# Altium integrated library AD Power Mgt Supervisory Circuit.IntLib: 143 symbols (part 1 of 3)
Pins are listed as number, name and electrical type; pins without a type are passive.

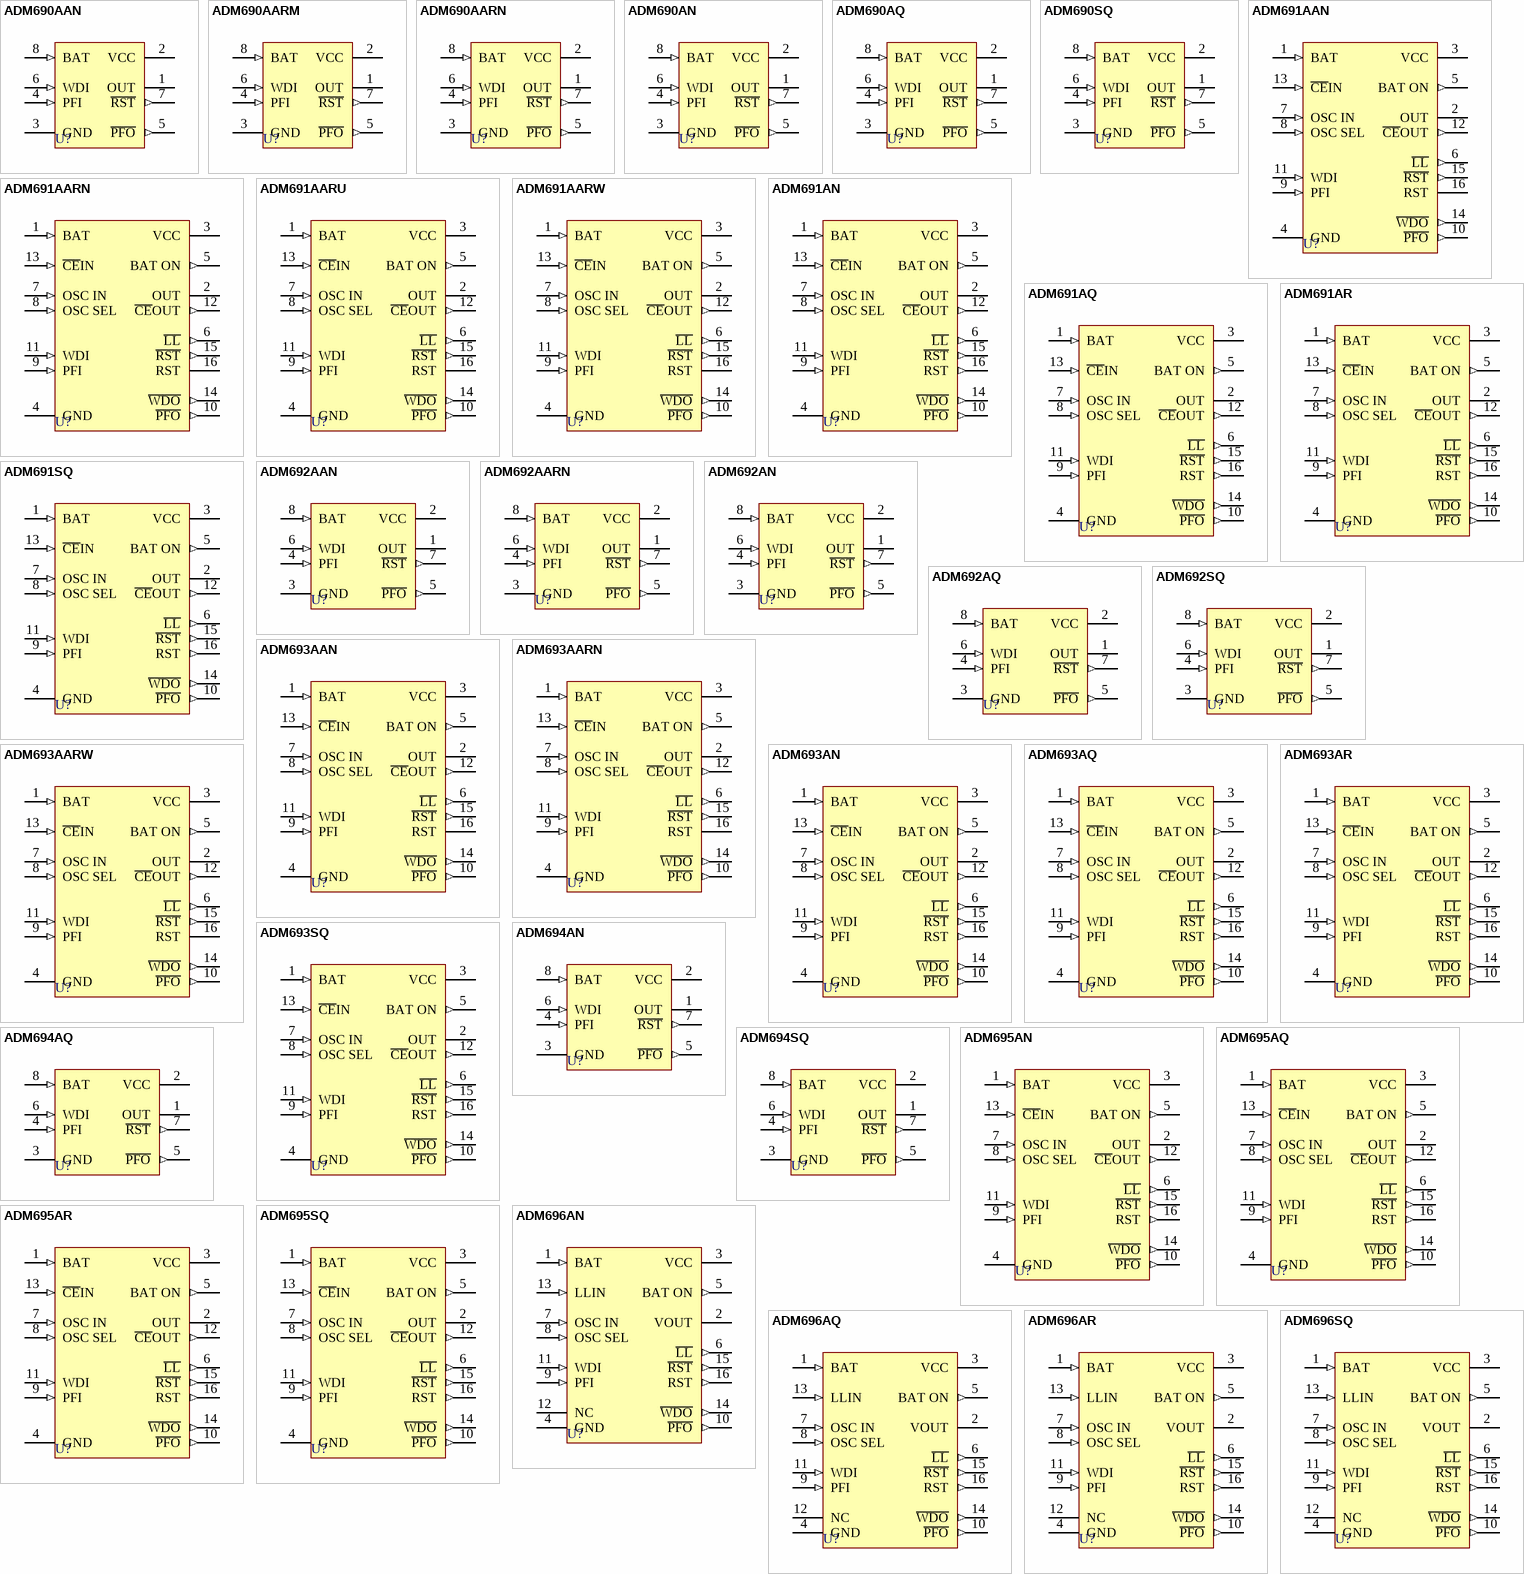
[diagram p0: symbols ADM690AAN to ADM696SQ]

## ADM690AAN
designator U?
Microprocessor Supervisory Circuit; Published: 8-Jun-2000; LatestRevisionDate: 04-Mar-2005; LatestRevisionNote: Stylized 3D Model Added.; DatasheetVersion: REV.0 1996; PackageReference: N-8_A; Publisher: Altium Limited; PackageDescription: DIP; 8 Leads; Row Spacing 7.62 mm; Pitch 2.54 mm; Code_JEDEC: MO-001-AN; ComponentLink1Description: Manufacturer Link; ComponentLink1URL: http://www.analog.com/en/prod/0%2C2877%2CADM690A%2C00.html; ComponentLink2Description: Datasheet; ComponentLink2URL: http://www.analog.com/UploadedFiles/Data_Sheets/551381363ADM690A_2A_802_5_0.pdf
footprint N-8_A (DIP; 8 Leads; Row Spacing 7.62 mm; Pitch 2.54 mm)
3D model N-8A (DIP; 8 Leads; Row Spacing 7.62 mm; Pitch 2.54 mm)
pins: 1 OUT (power), 2 VCC (power), 3 GND (power), 4 PFI (in), 5 ~{PFO} (out), 6 WDI (in), 7 ~{RST} (out), 8 BAT (in)

## ADM690AARM
designator U?
Microprocessor Supervisory Circuit; Published: 8-Jun-2000; LatestRevisionDate: 04-Mar-2005; LatestRevisionNote: Stylized 3D Model Added, PCB footprint pad width decreased.; DatasheetVersion: REV.0 1996; PackageVersion: 2004; PackageReference: RM-8; Publisher: Altium Limited; PackageDescription: Shrink Small Outline, MSOP; 8 Leads; Body Width 3 mm; Pitch 0.65 mm; Code_JEDEC: MO-187-AA; ComponentLink1Description: Manufacturer Link; ComponentLink1URL: http://www.analog.com/en/prod/0%2C2877%2CADM690A%2C00.html; ComponentLink2Description: Datasheet; ComponentLink2URL: http://www.analog.com/UploadedFiles/Data_Sheets/551381363ADM690A_2A_802_5_0.pdf
footprint RM-8 (Shrink Small Outline, MSOP; 8 Leads; Body Width 3 mm; Pitch 0.65 mm)
3D model RM-08 (Shrink Small Outline, MSOP; 8 Leads; Body Width 3 mm; Pitch 0.65 mm)
pins: 1 OUT (power), 2 VCC (power), 3 GND (power), 4 PFI (in), 5 ~{PFO} (out), 6 WDI (in), 7 ~{RST} (out), 8 BAT (in)

## ADM690AARN
designator U?
Microprocessor Supervisory Circuit; Published: 8-Jun-2000; LatestRevisionDate: 13-Apr-2006; LatestRevisionNote: IPC-7351 Footprint Added.; DatasheetVersion: REV.0 1996; PackageVersion: revA; PackageReference: SO-8; Publisher: Altium Limited; PackageDescription: 8-Pin Small Outline Integrated Circuit 1.27 mm Pitch; Code_JEDEC: MS-012-AA; Code_IPC: SOIC127P600-8; ComponentLink1Description: Manufacturer Link; ComponentLink1URL: http://www.analog.com/en/prod/0%2C2877%2CADM690A%2C00.html; ComponentLink2Description: Datasheet; ComponentLink2URL: http://www.analog.com/UploadedFiles/Data_Sheets/551381363ADM690A_2A_802_5_0.pdf
footprint SO-8_N (SOIC, 8-Leads, Body 4.9x3.9mm, Pitch 1.27mm, IPC Medium Density)
footprint SO-8_L (SOIC, 8-Leads, Body 4.9x3.9mm, Pitch 1.27mm, IPC High Density)
footprint SO-8_M (SOIC, 8-Leads, Body 4.9x3.9mm, Pitch 1.27mm, IPC Low Density)
3D model SO-8 (8-Pin Small Outline Integrated Circuit 1.27 mm Pitch)
pins: 1 OUT (power), 2 VCC (power), 3 GND (power), 4 PFI (in), 5 ~{PFO} (out), 6 WDI (in), 7 ~{RST} (out), 8 BAT (in)

## ADM690AN
designator U?
Microprocessor Supervisory Circuit; Published: 8-Jun-2000; LatestRevisionDate: 04-Mar-2005; LatestRevisionNote: Stylized 3D Model Added.; DatasheetVersion: REV.A 1996; PackageReference: N-8_A; Publisher: Altium Limited; PackageDescription: DIP; 8 Leads; Row Spacing 7.62 mm; Pitch 2.54 mm; Code_JEDEC: MO-001-AN; ComponentLink1Description: Manufacturer Link; ComponentLink1URL: http://www.analog.com/en/prod/0,,766_822_ADM690%2C00.html; ComponentLink2Description: Datasheet; ComponentLink2URL: http://www.analog.com/UploadedFiles/Data_Sheets/342591719adm690_5.pdf
footprint N-8_A (DIP; 8 Leads; Row Spacing 7.62 mm; Pitch 2.54 mm)
3D model N-8A (DIP; 8 Leads; Row Spacing 7.62 mm; Pitch 2.54 mm)
pins: 1 OUT (power), 2 VCC (power), 3 GND (power), 4 PFI (in), 5 ~{PFO} (out), 6 WDI (in), 7 ~{RST} (out), 8 BAT (in)

## ADM690AQ
designator U?
Microprocessor Supervisory Circuit; Published: 8-Jun-2000; LatestRevisionDate: 04-Mar-2005; LatestRevisionNote: Stylized 3D Model Added.; DatasheetVersion: REV.A 1996; PackageReference: Q-8_D; Publisher: Altium Limited; PackageDescription: DIP; 8 Leads; Row Spacing 7.62 mm; Pitch 2.54 mm; Code_JEDEC: MO-001-AN; ComponentLink1Description: Manufacturer Link; ComponentLink1URL: http://www.analog.com/en/prod/0,,766_822_ADM690%2C00.html; ComponentLink2Description: Datasheet; ComponentLink2URL: http://www.analog.com/UploadedFiles/Data_Sheets/342591719adm690_5.pdf
footprint Q-8_D (DIP; 8 Leads; Row Spacing 7.62 mm; Pitch 2.54 mm)
3D model N-8A (DIP; 8 Leads; Row Spacing 7.62 mm; Pitch 2.54 mm)
pins: 1 OUT (power), 2 VCC (power), 3 GND (power), 4 PFI (in), 5 ~{PFO} (out), 6 WDI (in), 7 ~{RST} (out), 8 BAT (in)

## ADM690SQ
designator U?
Microprocessor Supervisory Circuit; Published: 8-Jun-2000; LatestRevisionDate: 04-Mar-2005; LatestRevisionNote: Stylized 3D Model Added.; DatasheetVersion: REV.A 1996; PackageReference: Q-8_D; Publisher: Altium Limited; PackageDescription: DIP; 8 Leads; Row Spacing 7.62 mm; Pitch 2.54 mm; Code_JEDEC: MO-001-AN; ComponentLink1Description: Manufacturer Link; ComponentLink1URL: http://www.analog.com/en/prod/0,,766_822_ADM690%2C00.html; ComponentLink2Description: Datasheet; ComponentLink2URL: http://www.analog.com/UploadedFiles/Data_Sheets/342591719adm690_5.pdf
footprint Q-8_D (DIP; 8 Leads; Row Spacing 7.62 mm; Pitch 2.54 mm)
3D model N-8A (DIP; 8 Leads; Row Spacing 7.62 mm; Pitch 2.54 mm)
pins: 1 OUT (power), 2 VCC (power), 3 GND (power), 4 PFI (in), 5 ~{PFO} (out), 6 WDI (in), 7 ~{RST} (out), 8 BAT (in)

## ADM691AAN
designator U?
Microprocessor Supervisory Circuit; Published: 8-Jun-2000; LatestRevisionDate: 04-Mar-2005; LatestRevisionNote: Stylized 3D Model Added.; DatasheetVersion: REV.0 1996; PackageReference: N-16_A; Publisher: Altium Limited; PackageDescription: DIP; 16 Leads; Row Spacing 7.62 mm; Pitch 2.54 mm; ComponentLink1Description: Manufacturer Link; ComponentLink1URL: http://www.analog.com/en/prod/0%2C2877%2CADM691A%2C00.html; ComponentLink2Description: Datasheet; ComponentLink2URL: http://www.analog.com/UploadedFiles/Data_Sheets/765357289ADM691A_3A_800_0.pdf
footprint N-16_A (DIP; 16 Leads; Row Spacing 7.62 mm; Pitch 2.54 mm)
3D model N-16A (DIP; 16 Leads; Row Spacing 7.62 mm; Pitch 2.54 mm)
pins: 1 BAT (in), 2 OUT (power), 3 VCC (power), 4 GND (power), 5 BAT ON (out), 6 ~{LL} (out), 7 OSC IN (in), 8 OSC SEL (in), 9 PFI (in), 10 ~{PFO} (out), 11 WDI (in), 12 ~{CE}OUT (out), 13 ~{CE}IN (in), 14 ~{WDO} (out), 15 ~{RST} (out), 16 RST (oc)

## ADM691AARN
designator U?
Microprocessor Supervisory Circuit; Published: 8-Jun-2000; LatestRevisionDate: 13-Apr-2006; LatestRevisionNote: IPC-7351 Footprint Added.; DatasheetVersion: REV.0 1996; PackageVersion: rev0; PackageReference: R-16N; Publisher: Altium Limited; PackageDescription: 16-Pin Small Outline Integrated Circuit 1.27 mm Pitch; Code_JEDEC: MS-012-AC; Code_IPC: SOIC127P600-16; ComponentLink1Description: Manufacturer Link; ComponentLink1URL: http://www.analog.com/en/prod/0%2C2877%2CADM691A%2C00.html; ComponentLink2Description: Datasheet; ComponentLink2URL: http://www.analog.com/UploadedFiles/Data_Sheets/765357289ADM691A_3A_800_0.pdf
footprint R-16N_N (SOIC, 16-Leads, Body 9.9x4.9mm, Pitch 1.27mm, IPC Medium Density)
footprint R-16N_L (SOIC, 16-Leads, Body 9.9x4.9mm, Pitch 1.27mm, IPC High Density)
footprint R-16N_M (SOIC, 16-Leads, Body 9.9x4.9mm, Pitch 1.27mm, IPC Low Density)
3D model R-16N (16-Pin Small Outline Integrated Circuit 1.27 mm Pitch)
pins: 1 BAT (in), 2 OUT (power), 3 VCC (power), 4 GND (power), 5 BAT ON (out), 6 ~{LL} (out), 7 OSC IN (in), 8 OSC SEL (in), 9 PFI (in), 10 ~{PFO} (out), 11 WDI (in), 12 ~{CE}OUT (out), 13 ~{CE}IN (in), 14 ~{WDO} (out), 15 ~{RST} (out), 16 RST (oc)

## ADM691AARU
designator U?
Microprocessor Supervisory Circuit; Published: 8-Jun-2000; LatestRevisionDate: 04-Mar-2005; LatestRevisionNote: Stylized 3D Model Added.; DatasheetVersion: REV.0 1996; PackageVersion: revA; PackageReference: RU-16; Publisher: Altium Limited; PackageDescription: Shrink Small Outline; 16 Leads; Body Width 4.4 mm; Pitch 0.65 mm; ComponentLink1Description: Manufacturer Link; ComponentLink1URL: http://www.analog.com/en/prod/0%2C2877%2CADM691A%2C00.html; ComponentLink2Description: Datasheet; ComponentLink2URL: http://www.analog.com/UploadedFiles/Data_Sheets/765357289ADM691A_3A_800_0.pdf
footprint RU-16 (Shrink Small Outline; 16 Leads; Body Width 4.4 mm; Pitch 0.65 mm)
3D model RU-16 (Shrink Small Outline; 16 Leads; Body Width 4.4 mm; Pitch 0.65 mm)
pins: 1 BAT (in), 2 OUT (power), 3 VCC (power), 4 GND (power), 5 BAT ON (out), 6 ~{LL} (out), 7 OSC IN (in), 8 OSC SEL (in), 9 PFI (in), 10 ~{PFO} (out), 11 WDI (in), 12 ~{CE}OUT (out), 13 ~{CE}IN (in), 14 ~{WDO} (out), 15 ~{RST} (out), 16 RST (oc)

## ADM691AARW
designator U?
Microprocessor Supervisory Circuit; Published: 8-Jun-2000; LatestRevisionDate: 13-Apr-2006; LatestRevisionNote: IPC-7351 Footprint Added.; DatasheetVersion: REV.0 1996; PackageVersion: 2005; PackageReference: RW-16; Publisher: Altium Limited; PackageDescription: 16-Pin Wide Body Small Outline Integrated Circuit 1.27 mm Pitch; Code_JEDEC: MS-013-AA; Code_IPC: SOIC127P1030-16; ComponentLink1Description: Manufacturer Link; ComponentLink1URL: http://www.analog.com/en/prod/0%2C2877%2CADM691A%2C00.html; ComponentLink2Description: Datasheet; ComponentLink2URL: http://www.analog.com/UploadedFiles/Data_Sheets/765357289ADM691A_3A_800_0.pdf
footprint RW-16_N (SOIC, 16-Leads, Body 10.3x7.5mm, Pitch 1.27mm, IPC Medium Density)
footprint RW-16_L (SOIC, 16-Leads, Body 10.3x7.5mm, Pitch 1.27mm, IPC High Density)
footprint RW-16_M (SOIC, 16-Leads, Body 10.3x7.5mm, Pitch 1.27mm, IPC Low Density)
3D model R-16 (16-Pin Wide Body Small Outline Integrated Circuit 1.27 mm Pitch)
pins: 1 BAT (in), 2 OUT (power), 3 VCC (power), 4 GND (power), 5 BAT ON (out), 6 ~{LL} (out), 7 OSC IN (in), 8 OSC SEL (in), 9 PFI (in), 10 ~{PFO} (out), 11 WDI (in), 12 ~{CE}OUT (out), 13 ~{CE}IN (in), 14 ~{WDO} (out), 15 ~{RST} (out), 16 RST (oc)

## ADM691AN
designator U?
Microprocessor Supervisory Circuit; Published: 8-Jun-2000; LatestRevisionDate: 04-Mar-2005; LatestRevisionNote: Stylized 3D Model Added.; DatasheetVersion: REV.A 1996; PackageReference: N-16_A; Publisher: Altium Limited; PackageDescription: DIP; 16 Leads; Row Spacing 7.62 mm; Pitch 2.54 mm; ComponentLink1Description: Manufacturer Link; ComponentLink1URL: http://www.analog.com/en/prod/0,,766_822_ADM690%2C00.html; ComponentLink2Description: Datasheet; ComponentLink2URL: http://www.analog.com/UploadedFiles/Data_Sheets/342591719adm690_5.pdf
footprint N-16_A (DIP; 16 Leads; Row Spacing 7.62 mm; Pitch 2.54 mm)
3D model N-16A (DIP; 16 Leads; Row Spacing 7.62 mm; Pitch 2.54 mm)
pins: 1 BAT (in), 2 OUT (power), 3 VCC (power), 4 GND (power), 5 BAT ON (out), 6 ~{LL} (out), 7 OSC IN (in), 8 OSC SEL (in), 9 PFI (in), 10 ~{PFO} (out), 11 WDI (in), 12 ~{CE}OUT (out), 13 ~{CE}IN (in), 14 ~{WDO} (out), 15 ~{RST} (out), 16 RST (out)

## ADM691AQ
designator U?
Microprocessor Supervisory Circuit; Published: 8-Jun-2000; LatestRevisionDate: 04-Mar-2005; LatestRevisionNote: Stylized 3D Model Added.; DatasheetVersion: REV.A 1996; PackageVersion: 1996; PackageReference: Q-16; Publisher: Altium Limited; PackageDescription: DIP; 16 Leads; Row Spacing 7.62 mm; Pitch 2.54 mm; ComponentLink1Description: Manufacturer Link; ComponentLink1URL: http://www.analog.com/en/prod/0,,766_822_ADM690%2C00.html; ComponentLink2Description: Datasheet; ComponentLink2URL: http://www.analog.com/UploadedFiles/Data_Sheets/342591719adm690_5.pdf
footprint Q-16 (DIP; 16 Leads; Row Spacing 7.62 mm; Pitch 2.54 mm)
3D model N-16A (DIP; 16 Leads; Row Spacing 7.62 mm; Pitch 2.54 mm)
pins: 1 BAT (in), 2 OUT (power), 3 VCC (power), 4 GND (power), 5 BAT ON (out), 6 ~{LL} (out), 7 OSC IN (in), 8 OSC SEL (in), 9 PFI (in), 10 ~{PFO} (out), 11 WDI (in), 12 ~{CE}OUT (out), 13 ~{CE}IN (in), 14 ~{WDO} (out), 15 ~{RST} (out), 16 RST (out)

## ADM691AR
designator U?
Microprocessor Supervisory Circuit; Published: 8-Jun-2000; LatestRevisionDate: 13-Apr-2006; LatestRevisionNote: IPC-7351 Footprint Added.; DatasheetVersion: REV.A 1996; PackageVersion: revA 1996; PackageReference: R-16; Publisher: Altium Limited; PackageDescription: 16-Pin Small Outline Integrated Circuit 1.27 mm Pitch; Code_JEDEC: MS-013-AA; Code_IPC: SOIC127P1030-16; ComponentLink1Description: Manufacturer Link; ComponentLink1URL: http://www.analog.com/en/prod/0,,766_822_ADM690%2C00.html; ComponentLink2Description: Datasheet; ComponentLink2URL: http://www.analog.com/UploadedFiles/Data_Sheets/342591719adm690_5.pdf
footprint R-16_N (SOIC, 16-Leads, Body 10.3x7.5mm, Pitch 1.27mm, IPC Medium Density)
footprint R-16_L (SOIC, 16-Leads, Body 10.3x7.5mm, Pitch 1.27mm, IPC High Density)
footprint R-16_M (SOIC, 16-Leads, Body 10.3x7.5mm, Pitch 1.27mm, IPC Low Density)
3D model R-16 (16-Pin Small Outline Integrated Circuit 1.27 mm Pitch)
pins: 1 BAT (in), 2 OUT (power), 3 VCC (power), 4 GND (power), 5 BAT ON (out), 6 ~{LL} (out), 7 OSC IN (in), 8 OSC SEL (in), 9 PFI (in), 10 ~{PFO} (out), 11 WDI (in), 12 ~{CE}OUT (out), 13 ~{CE}IN (in), 14 ~{WDO} (out), 15 ~{RST} (out), 16 RST (out)

## ADM691SQ
designator U?
Microprocessor Supervisory Circuit; Published: 8-Jun-2000; LatestRevisionDate: 04-Mar-2005; LatestRevisionNote: Stylized 3D Model Added.; DatasheetVersion: REV.A 1996; PackageVersion: 1996; PackageReference: Q-16; Publisher: Altium Limited; PackageDescription: DIP; 16 Leads; Row Spacing 7.62 mm; Pitch 2.54 mm; ComponentLink1Description: Manufacturer Link; ComponentLink1URL: http://www.analog.com/en/prod/0,,766_822_ADM690%2C00.html; ComponentLink2Description: Datasheet; ComponentLink2URL: http://www.analog.com/UploadedFiles/Data_Sheets/342591719adm690_5.pdf
footprint Q-16 (DIP; 16 Leads; Row Spacing 7.62 mm; Pitch 2.54 mm)
3D model N-16A (DIP; 16 Leads; Row Spacing 7.62 mm; Pitch 2.54 mm)
pins: 1 BAT (in), 2 OUT (power), 3 VCC (power), 4 GND (power), 5 BAT ON (out), 6 ~{LL} (out), 7 OSC IN (in), 8 OSC SEL (in), 9 PFI (in), 10 ~{PFO} (out), 11 WDI (in), 12 ~{CE}OUT (out), 13 ~{CE}IN (in), 14 ~{WDO} (out), 15 ~{RST} (out), 16 RST (out)

## ADM692AAN
designator U?
Microprocessor Supervisory Circuit; Published: 8-Jun-2000; LatestRevisionDate: 04-Mar-2005; LatestRevisionNote: Stylized 3D Model Added.; DatasheetVersion: REV.0 1996; PackageReference: N-8_A; Publisher: Altium Limited; PackageDescription: DIP; 8 Leads; Row Spacing 7.62 mm; Pitch 2.54 mm; Code_JEDEC: MO-001-AN; ComponentLink1Description: Manufacturer Link; ComponentLink1URL: http://www.analog.com/en/prod/0%2C2877%2CADM692A%2C00.html; ComponentLink2Description: Datasheet; ComponentLink2URL: http://www.analog.com/UploadedFiles/Data_Sheets/551381363ADM690A_2A_802_5_0.pdf
footprint N-8_A (DIP; 8 Leads; Row Spacing 7.62 mm; Pitch 2.54 mm)
3D model N-8A (DIP; 8 Leads; Row Spacing 7.62 mm; Pitch 2.54 mm)
pins: 1 OUT (power), 2 VCC (power), 3 GND (power), 4 PFI (in), 5 ~{PFO} (out), 6 WDI (in), 7 ~{RST} (out), 8 BAT (in)

## ADM692AARN
designator U?
Microprocessor Supervisory Circuit; Published: 8-Jun-2000; LatestRevisionDate: 13-Apr-2006; LatestRevisionNote: IPC-7351 Footprint Added.; DatasheetVersion: REV.0 1996; PackageVersion: revA; PackageReference: SO-8; Publisher: Altium Limited; PackageDescription: 8-Pin Small Outline Integrated Circuit 1.27 mm Pitch; Code_JEDEC: MS-012-AA; Code_IPC: SOIC127P600-8; ComponentLink1Description: Manufacturer Link; ComponentLink1URL: http://www.analog.com/en/prod/0%2C2877%2CADM692A%2C00.html; ComponentLink2Description: Datasheet; ComponentLink2URL: http://www.analog.com/UploadedFiles/Data_Sheets/551381363ADM690A_2A_802_5_0.pdf
footprint SO-8_N (SOIC, 8-Leads, Body 4.9x3.9mm, Pitch 1.27mm, IPC Medium Density)
footprint SO-8_L (SOIC, 8-Leads, Body 4.9x3.9mm, Pitch 1.27mm, IPC High Density)
footprint SO-8_M (SOIC, 8-Leads, Body 4.9x3.9mm, Pitch 1.27mm, IPC Low Density)
3D model SO-8 (8-Pin Small Outline Integrated Circuit 1.27 mm Pitch)
pins: 1 OUT (power), 2 VCC (power), 3 GND (power), 4 PFI (in), 5 ~{PFO} (out), 6 WDI (in), 7 ~{RST} (out), 8 BAT (in)

## ADM692AN
designator U?
Microprocessor Supervisory Circuit; Published: 8-Jun-2000; LatestRevisionDate: 04-Mar-2005; LatestRevisionNote: Stylized 3D Model Added.; DatasheetVersion: REV.A 1996; PackageReference: N-8_A; Publisher: Altium Limited; PackageDescription: DIP; 8 Leads; Row Spacing 7.62 mm; Pitch 2.54 mm; Code_JEDEC: MO-001-AN; ComponentLink1Description: Manufacturer Link; ComponentLink1URL: http://www.analog.com/en/prod/0,,766_822_ADM690%2C00.html; ComponentLink2Description: Datasheet; ComponentLink2URL: http://www.analog.com/UploadedFiles/Data_Sheets/342591719adm690_5.pdf
footprint N-8_A (DIP; 8 Leads; Row Spacing 7.62 mm; Pitch 2.54 mm)
3D model N-8A (DIP; 8 Leads; Row Spacing 7.62 mm; Pitch 2.54 mm)
pins: 1 OUT (power), 2 VCC (power), 3 GND (power), 4 PFI (in), 5 ~{PFO} (out), 6 WDI (in), 7 ~{RST} (out), 8 BAT (in)

## ADM692AQ
designator U?
Microprocessor Supervisory Circuit; Published: 8-Jun-2000; LatestRevisionDate: 04-Mar-2005; LatestRevisionNote: Stylized 3D Model Added.; DatasheetVersion: REV.A 1996; PackageReference: Q-8_D; Publisher: Altium Limited; PackageDescription: DIP; 8 Leads; Row Spacing 7.62 mm; Pitch 2.54 mm; Code_JEDEC: MO-001-AN; ComponentLink1Description: Manufacturer Link; ComponentLink1URL: http://www.analog.com/en/prod/0,,766_822_ADM690%2C00.html; ComponentLink2Description: Datasheet; ComponentLink2URL: http://www.analog.com/UploadedFiles/Data_Sheets/342591719adm690_5.pdf
footprint Q-8_D (DIP; 8 Leads; Row Spacing 7.62 mm; Pitch 2.54 mm)
3D model N-8A (DIP; 8 Leads; Row Spacing 7.62 mm; Pitch 2.54 mm)
pins: 1 OUT (power), 2 VCC (power), 3 GND (power), 4 PFI (in), 5 ~{PFO} (out), 6 WDI (in), 7 ~{RST} (out), 8 BAT (in)

## ADM692SQ
designator U?
Microprocessor Supervisory Circuit; Published: 8-Jun-2000; LatestRevisionDate: 04-Mar-2005; LatestRevisionNote: Stylized 3D Model Added.; DatasheetVersion: REV.A 1996; PackageReference: Q-8_D; Publisher: Altium Limited; PackageDescription: DIP; 8 Leads; Row Spacing 7.62 mm; Pitch 2.54 mm; Code_JEDEC: MO-001-AN; ComponentLink1Description: Manufacturer Link; ComponentLink1URL: http://www.analog.com/en/prod/0,,766_822_ADM690%2C00.html; ComponentLink2Description: Datasheet; ComponentLink2URL: http://www.analog.com/UploadedFiles/Data_Sheets/342591719adm690_5.pdf
footprint Q-8_D (DIP; 8 Leads; Row Spacing 7.62 mm; Pitch 2.54 mm)
3D model N-8A (DIP; 8 Leads; Row Spacing 7.62 mm; Pitch 2.54 mm)
pins: 1 OUT (power), 2 VCC (power), 3 GND (power), 4 PFI (in), 5 ~{PFO} (out), 6 WDI (in), 7 ~{RST} (out), 8 BAT (in)

## ADM693AAN
designator U?
Microprocessor Supervisory Circuit; Published: 8-Jun-2000; LatestRevisionDate: 04-Mar-2005; LatestRevisionNote: Stylized 3D Model Added.; DatasheetVersion: REV.0 1996; PackageReference: N-16_A; Publisher: Altium Limited; PackageDescription: DIP; 16 Leads; Row Spacing 7.62 mm; Pitch 2.54 mm; ComponentLink1Description: Manufacturer Link; ComponentLink1URL: http://www.analog.com/en/prod/0%2C2877%2CADM693A%2C00.html; ComponentLink2Description: Datasheet; ComponentLink2URL: http://www.analog.com/UploadedFiles/Data_Sheets/765357289ADM691A_3A_800_0.pdf
footprint N-16_A (DIP; 16 Leads; Row Spacing 7.62 mm; Pitch 2.54 mm)
3D model N-16A (DIP; 16 Leads; Row Spacing 7.62 mm; Pitch 2.54 mm)
pins: 1 BAT (in), 2 OUT (power), 3 VCC (power), 4 GND (power), 5 BAT ON (out), 6 ~{LL} (out), 7 OSC IN (in), 8 OSC SEL (in), 9 PFI (in), 10 ~{PFO} (out), 11 WDI (in), 12 ~{CE}OUT (out), 13 ~{CE}IN (in), 14 ~{WDO} (out), 15 ~{RST} (out), 16 RST (oc)

## ADM693AARN
designator U?
Microprocessor Supervisory Circuit; Published: 8-Jun-2000; LatestRevisionDate: 13-Apr-2006; LatestRevisionNote: IPC-7351 Footprint Added.; DatasheetVersion: REV.0 1996; PackageVersion: rev0; PackageReference: R-16N; Publisher: Altium Limited; PackageDescription: 16-Pin Small Outline Integrated Circuit 1.27 mm Pitch; Code_JEDEC: MS-012-AC; Code_IPC: SOIC127P600-16; ComponentLink1Description: Manufacturer Link; ComponentLink1URL: http://www.analog.com/en/prod/0%2C2877%2CADM693A%2C00.html; ComponentLink2Description: Datasheet; ComponentLink2URL: http://www.analog.com/UploadedFiles/Data_Sheets/765357289ADM691A_3A_800_0.pdf
footprint R-16N_N (SOIC, 16-Leads, Body 9.9x4.9mm, Pitch 1.27mm, IPC Medium Density)
footprint R-16N_L (SOIC, 16-Leads, Body 9.9x4.9mm, Pitch 1.27mm, IPC High Density)
footprint R-16N_M (SOIC, 16-Leads, Body 9.9x4.9mm, Pitch 1.27mm, IPC Low Density)
3D model R-16N (16-Pin Small Outline Integrated Circuit 1.27 mm Pitch)
pins: 1 BAT (in), 2 OUT (power), 3 VCC (power), 4 GND (power), 5 BAT ON (out), 6 ~{LL} (out), 7 OSC IN (in), 8 OSC SEL (in), 9 PFI (in), 10 ~{PFO} (out), 11 WDI (in), 12 ~{CE}OUT (out), 13 ~{CE}IN (in), 14 ~{WDO} (out), 15 ~{RST} (out), 16 RST (oc)

## ADM693AARW
designator U?
Microprocessor Supervisory Circuit; Published: 8-Jun-2000; LatestRevisionDate: 13-Apr-2006; LatestRevisionNote: IPC-7351 Footprint Added.; DatasheetVersion: REV.0 1996; PackageVersion: 2005; PackageReference: RW-16; Publisher: Altium Limited; PackageDescription: 16-Pin Wide Body Small Outline Integrated Circuit 1.27 mm Pitch; Code_JEDEC: MS-013-AA; Code_IPC: SOIC127P1030-16; ComponentLink1Description: Manufacturer Link; ComponentLink1URL: http://www.analog.com/en/prod/0%2C2877%2CADM693A%2C00.html; ComponentLink2Description: Datasheet; ComponentLink2URL: http://www.analog.com/UploadedFiles/Data_Sheets/765357289ADM691A_3A_800_0.pdf
footprint RW-16_N (SOIC, 16-Leads, Body 10.3x7.5mm, Pitch 1.27mm, IPC Medium Density)
footprint RW-16_L (SOIC, 16-Leads, Body 10.3x7.5mm, Pitch 1.27mm, IPC High Density)
footprint RW-16_M (SOIC, 16-Leads, Body 10.3x7.5mm, Pitch 1.27mm, IPC Low Density)
3D model R-16 (16-Pin Wide Body Small Outline Integrated Circuit 1.27 mm Pitch)
pins: 1 BAT (in), 2 OUT (power), 3 VCC (power), 4 GND (power), 5 BAT ON (out), 6 ~{LL} (out), 7 OSC IN (in), 8 OSC SEL (in), 9 PFI (in), 10 ~{PFO} (out), 11 WDI (in), 12 ~{CE}OUT (out), 13 ~{CE}IN (in), 14 ~{WDO} (out), 15 ~{RST} (out), 16 RST (oc)

## ADM693AN
designator U?
Microprocessor Supervisory Circuit; Published: 8-Jun-2000; LatestRevisionDate: 04-Mar-2005; LatestRevisionNote: Stylized 3D Model Added.; DatasheetVersion: REV.A 1996; PackageReference: N-16_A; Publisher: Altium Limited; PackageDescription: DIP; 16 Leads; Row Spacing 7.62 mm; Pitch 2.54 mm; ComponentLink1Description: Manufacturer Link; ComponentLink1URL: http://www.analog.com/en/prod/0,,766_822_ADM690%2C00.html; ComponentLink2Description: Datasheet; ComponentLink2URL: http://www.analog.com/UploadedFiles/Data_Sheets/342591719adm690_5.pdf
footprint N-16_A (DIP; 16 Leads; Row Spacing 7.62 mm; Pitch 2.54 mm)
3D model N-16A (DIP; 16 Leads; Row Spacing 7.62 mm; Pitch 2.54 mm)
pins: 1 BAT (in), 2 OUT (power), 3 VCC (power), 4 GND (power), 5 BAT ON (out), 6 ~{LL} (out), 7 OSC IN (in), 8 OSC SEL (in), 9 PFI (in), 10 ~{PFO} (out), 11 WDI (in), 12 ~{CE}OUT (out), 13 ~{CE}IN (in), 14 ~{WDO} (out), 15 ~{RST} (out), 16 RST (out)

## ADM693AQ
designator U?
Microprocessor Supervisory Circuit; Published: 8-Jun-2000; LatestRevisionDate: 04-Mar-2005; LatestRevisionNote: Stylized 3D Model Added.; DatasheetVersion: REV.A 1996; PackageVersion: 1996; PackageReference: Q-16; Publisher: Altium Limited; PackageDescription: DIP; 16 Leads; Row Spacing 7.62 mm; Pitch 2.54 mm; ComponentLink1Description: Manufacturer Link; ComponentLink1URL: http://www.analog.com/en/prod/0,,766_822_ADM690%2C00.html; ComponentLink2Description: Datasheet; ComponentLink2URL: http://www.analog.com/UploadedFiles/Data_Sheets/342591719adm690_5.pdf
footprint Q-16 (DIP; 16 Leads; Row Spacing 7.62 mm; Pitch 2.54 mm)
3D model N-16A (DIP; 16 Leads; Row Spacing 7.62 mm; Pitch 2.54 mm)
pins: 1 BAT (in), 2 OUT (power), 3 VCC (power), 4 GND (power), 5 BAT ON (out), 6 ~{LL} (out), 7 OSC IN (in), 8 OSC SEL (in), 9 PFI (in), 10 ~{PFO} (out), 11 WDI (in), 12 ~{CE}OUT (out), 13 ~{CE}IN (in), 14 ~{WDO} (out), 15 ~{RST} (out), 16 RST (out)

## ADM693AR
designator U?
Microprocessor Supervisory Circuit; Published: 8-Jun-2000; LatestRevisionDate: 13-Apr-2006; LatestRevisionNote: IPC-7351 Footprint Added.; DatasheetVersion: REV.A 1996; PackageVersion: revA 1996; PackageReference: R-16; Publisher: Altium Limited; PackageDescription: 16-Pin Small Outline Integrated Circuit 1.27 mm Pitch; Code_JEDEC: MS-013-AA; Code_IPC: SOIC127P1030-16; ComponentLink1Description: Manufacturer Link; ComponentLink1URL: http://www.analog.com/en/prod/0,,766_822_ADM690%2C00.html; ComponentLink2Description: Datasheet; ComponentLink2URL: http://www.analog.com/UploadedFiles/Data_Sheets/342591719adm690_5.pdf
footprint R-16_N (SOIC, 16-Leads, Body 10.3x7.5mm, Pitch 1.27mm, IPC Medium Density)
footprint R-16_L (SOIC, 16-Leads, Body 10.3x7.5mm, Pitch 1.27mm, IPC High Density)
footprint R-16_M (SOIC, 16-Leads, Body 10.3x7.5mm, Pitch 1.27mm, IPC Low Density)
3D model R-16 (16-Pin Small Outline Integrated Circuit 1.27 mm Pitch)
pins: 1 BAT (in), 2 OUT (power), 3 VCC (power), 4 GND (power), 5 BAT ON (out), 6 ~{LL} (out), 7 OSC IN (in), 8 OSC SEL (in), 9 PFI (in), 10 ~{PFO} (out), 11 WDI (in), 12 ~{CE}OUT (out), 13 ~{CE}IN (in), 14 ~{WDO} (out), 15 ~{RST} (out), 16 RST (out)

## ADM693SQ
designator U?
Microprocessor Supervisory Circuit; Published: 8-Jun-2000; LatestRevisionDate: 04-Mar-2005; LatestRevisionNote: Stylized 3D Model Added.; DatasheetVersion: REV.A 1996; PackageVersion: 1996; PackageReference: Q-16; Publisher: Altium Limited; PackageDescription: DIP; 16 Leads; Row Spacing 7.62 mm; Pitch 2.54 mm; ComponentLink1Description: Manufacturer Link; ComponentLink1URL: http://www.analog.com/en/prod/0,,766_822_ADM690%2C00.html; ComponentLink2Description: Datasheet; ComponentLink2URL: http://www.analog.com/UploadedFiles/Data_Sheets/342591719adm690_5.pdf
footprint Q-16 (DIP; 16 Leads; Row Spacing 7.62 mm; Pitch 2.54 mm)
3D model N-16A (DIP; 16 Leads; Row Spacing 7.62 mm; Pitch 2.54 mm)
pins: 1 BAT (in), 2 OUT (power), 3 VCC (power), 4 GND (power), 5 BAT ON (out), 6 ~{LL} (out), 7 OSC IN (in), 8 OSC SEL (in), 9 PFI (in), 10 ~{PFO} (out), 11 WDI (in), 12 ~{CE}OUT (out), 13 ~{CE}IN (in), 14 ~{WDO} (out), 15 ~{RST} (out), 16 RST (out)

## ADM694AN
designator U?
Microprocessor Supervisory Circuit; Published: 8-Jun-2000; LatestRevisionDate: 04-Mar-2005; LatestRevisionNote: Stylized 3D Model Added.; DatasheetVersion: REV.A 1996; PackageReference: N-8_A; Publisher: Altium Limited; PackageDescription: DIP; 8 Leads; Row Spacing 7.62 mm; Pitch 2.54 mm; Code_JEDEC: MO-001-AN; ComponentLink1Description: Manufacturer Link; ComponentLink1URL: http://www.analog.com/en/prod/0,,766_822_ADM690%2C00.html; ComponentLink2Description: Datasheet; ComponentLink2URL: http://www.analog.com/UploadedFiles/Data_Sheets/342591719adm690_5.pdf
footprint N-8_A (DIP; 8 Leads; Row Spacing 7.62 mm; Pitch 2.54 mm)
3D model N-8A (DIP; 8 Leads; Row Spacing 7.62 mm; Pitch 2.54 mm)
pins: 1 OUT (power), 2 VCC (power), 3 GND (power), 4 PFI (in), 5 ~{PFO} (out), 6 WDI (in), 7 ~{RST} (out), 8 BAT (in)

## ADM694AQ
designator U?
Microprocessor Supervisory Circuit; Published: 8-Jun-2000; LatestRevisionDate: 04-Mar-2005; LatestRevisionNote: Stylized 3D Model Added.; DatasheetVersion: REV.A 1996; PackageReference: Q-8_D; Publisher: Altium Limited; PackageDescription: DIP; 8 Leads; Row Spacing 7.62 mm; Pitch 2.54 mm; Code_JEDEC: MO-001-AN; ComponentLink1Description: Manufacturer Link; ComponentLink1URL: http://www.analog.com/en/prod/0,,766_822_ADM690%2C00.html; ComponentLink2Description: Datasheet; ComponentLink2URL: http://www.analog.com/UploadedFiles/Data_Sheets/342591719adm690_5.pdf
footprint Q-8_D (DIP; 8 Leads; Row Spacing 7.62 mm; Pitch 2.54 mm)
3D model N-8A (DIP; 8 Leads; Row Spacing 7.62 mm; Pitch 2.54 mm)
pins: 1 OUT (power), 2 VCC (power), 3 GND (power), 4 PFI (in), 5 ~{PFO} (out), 6 WDI (in), 7 ~{RST} (out), 8 BAT (in)

## ADM694SQ
designator U?
Microprocessor Supervisory Circuit; Published: 8-Jun-2000; LatestRevisionDate: 04-Mar-2005; LatestRevisionNote: Stylized 3D Model Added.; DatasheetVersion: REV.A 1996; PackageReference: Q-8_D; Publisher: Altium Limited; PackageDescription: DIP; 8 Leads; Row Spacing 7.62 mm; Pitch 2.54 mm; Code_JEDEC: MO-001-AN; ComponentLink1Description: Manufacturer Link; ComponentLink1URL: http://www.analog.com/en/prod/0,,766_822_ADM690%2C00.html; ComponentLink2Description: Datasheet; ComponentLink2URL: http://www.analog.com/UploadedFiles/Data_Sheets/342591719adm690_5.pdf
footprint Q-8_D (DIP; 8 Leads; Row Spacing 7.62 mm; Pitch 2.54 mm)
3D model N-8A (DIP; 8 Leads; Row Spacing 7.62 mm; Pitch 2.54 mm)
pins: 1 OUT (power), 2 VCC (power), 3 GND (power), 4 PFI (in), 5 ~{PFO} (out), 6 WDI (in), 7 ~{RST} (out), 8 BAT (in)

## ADM695AN
designator U?
Microprocessor Supervisory Circuit; Published: 8-Jun-2000; LatestRevisionDate: 04-Mar-2005; LatestRevisionNote: Stylized 3D Model Added.; DatasheetVersion: REV.A 1996; PackageReference: N-16_A; Publisher: Altium Limited; PackageDescription: DIP; 16 Leads; Row Spacing 7.62 mm; Pitch 2.54 mm; ComponentLink1Description: Manufacturer Link; ComponentLink1URL: http://www.analog.com/en/prod/0,,766_822_ADM690%2C00.html; ComponentLink2Description: Datasheet; ComponentLink2URL: http://www.analog.com/UploadedFiles/Data_Sheets/342591719adm690_5.pdf
footprint N-16_A (DIP; 16 Leads; Row Spacing 7.62 mm; Pitch 2.54 mm)
3D model N-16A (DIP; 16 Leads; Row Spacing 7.62 mm; Pitch 2.54 mm)
pins: 1 BAT (in), 2 OUT (power), 3 VCC (power), 4 GND (power), 5 BAT ON (out), 6 ~{LL} (out), 7 OSC IN (in), 8 OSC SEL (in), 9 PFI (in), 10 ~{PFO} (out), 11 WDI (in), 12 ~{CE}OUT (out), 13 ~{CE}IN (in), 14 ~{WDO} (out), 15 ~{RST} (out), 16 RST (out)

## ADM695AQ
designator U?
Microprocessor Supervisory Circuit; Published: 8-Jun-2000; LatestRevisionDate: 04-Mar-2005; LatestRevisionNote: Stylized 3D Model Added.; DatasheetVersion: REV.A 1996; PackageVersion: 1996; PackageReference: Q-16; Publisher: Altium Limited; PackageDescription: DIP; 16 Leads; Row Spacing 7.62 mm; Pitch 2.54 mm; ComponentLink1Description: Manufacturer Link; ComponentLink1URL: http://www.analog.com/en/prod/0,,766_822_ADM690%2C00.html; ComponentLink2Description: Datasheet; ComponentLink2URL: http://www.analog.com/UploadedFiles/Data_Sheets/342591719adm690_5.pdf
footprint Q-16 (DIP; 16 Leads; Row Spacing 7.62 mm; Pitch 2.54 mm)
3D model N-16A (DIP; 16 Leads; Row Spacing 7.62 mm; Pitch 2.54 mm)
pins: 1 BAT (in), 2 OUT (power), 3 VCC (power), 4 GND (power), 5 BAT ON (out), 6 ~{LL} (out), 7 OSC IN (in), 8 OSC SEL (in), 9 PFI (in), 10 ~{PFO} (out), 11 WDI (in), 12 ~{CE}OUT (out), 13 ~{CE}IN (in), 14 ~{WDO} (out), 15 ~{RST} (out), 16 RST (out)

## ADM695AR
designator U?
Microprocessor Supervisory Circuit; Published: 8-Jun-2000; LatestRevisionDate: 13-Apr-2006; LatestRevisionNote: IPC-7351 Footprint Added.; DatasheetVersion: REV.A 1996; PackageVersion: revA 1996; PackageReference: R-16; Publisher: Altium Limited; PackageDescription: 16-Pin Small Outline Integrated Circuit 1.27 mm Pitch; Code_JEDEC: MS-013-AA; Code_IPC: SOIC127P1030-16; ComponentLink1Description: Manufacturer Link; ComponentLink1URL: http://www.analog.com/en/prod/0,,766_822_ADM690%2C00.html; ComponentLink2Description: Datasheet; ComponentLink2URL: http://www.analog.com/UploadedFiles/Data_Sheets/342591719adm690_5.pdf
footprint R-16_N (SOIC, 16-Leads, Body 10.3x7.5mm, Pitch 1.27mm, IPC Medium Density)
footprint R-16_L (SOIC, 16-Leads, Body 10.3x7.5mm, Pitch 1.27mm, IPC High Density)
footprint R-16_M (SOIC, 16-Leads, Body 10.3x7.5mm, Pitch 1.27mm, IPC Low Density)
3D model R-16 (16-Pin Small Outline Integrated Circuit 1.27 mm Pitch)
pins: 1 BAT (in), 2 OUT (power), 3 VCC (power), 4 GND (power), 5 BAT ON (out), 6 ~{LL} (out), 7 OSC IN (in), 8 OSC SEL (in), 9 PFI (in), 10 ~{PFO} (out), 11 WDI (in), 12 ~{CE}OUT (out), 13 ~{CE}IN (in), 14 ~{WDO} (out), 15 ~{RST} (out), 16 RST (out)

## ADM695SQ
designator U?
Microprocessor Supervisory Circuit; Published: 8-Jun-2000; LatestRevisionDate: 04-Mar-2005; LatestRevisionNote: Stylized 3D Model Added.; DatasheetVersion: REV.A 1996; PackageVersion: 1996; PackageReference: Q-16; Publisher: Altium Limited; PackageDescription: DIP; 16 Leads; Row Spacing 7.62 mm; Pitch 2.54 mm; ComponentLink1Description: Manufacturer Link; ComponentLink1URL: http://www.analog.com/en/prod/0,,766_822_ADM690%2C00.html; ComponentLink2Description: Datasheet; ComponentLink2URL: http://www.analog.com/UploadedFiles/Data_Sheets/342591719adm690_5.pdf
footprint Q-16 (DIP; 16 Leads; Row Spacing 7.62 mm; Pitch 2.54 mm)
3D model N-16A (DIP; 16 Leads; Row Spacing 7.62 mm; Pitch 2.54 mm)
pins: 1 BAT (in), 2 OUT (power), 3 VCC (power), 4 GND (power), 5 BAT ON (out), 6 ~{LL} (out), 7 OSC IN (in), 8 OSC SEL (in), 9 PFI (in), 10 ~{PFO} (out), 11 WDI (in), 12 ~{CE}OUT (out), 13 ~{CE}IN (in), 14 ~{WDO} (out), 15 ~{RST} (out), 16 RST (out)

## ADM696AN
designator U?
Microprocessor Supervisory Circuit; Note: Pin 12 is not connected; Published: 8-Jun-2000; LatestRevisionDate: 04-Mar-2005; LatestRevisionNote: Stylized 3D Model Added.; DatasheetVersion: REV.0 1998; PackageReference: N-16_A; Publisher: Altium Limited; PackageDescription: DIP; 16 Leads; Row Spacing 7.62 mm; Pitch 2.54 mm; ComponentLink1Description: Manufacturer Link; ComponentLink1URL: http://www.analog.com/en/prod/0,,766_822_ADM696%2C00.html; ComponentLink2Description: Datasheet; ComponentLink2URL: http://www.analog.com/UploadedFiles/Data_Sheets/15387618adm696_7.pdf
footprint N-16_A (DIP; 16 Leads; Row Spacing 7.62 mm; Pitch 2.54 mm)
3D model N-16A (DIP; 16 Leads; Row Spacing 7.62 mm; Pitch 2.54 mm)
pins: 1 BAT (in), 2 VOUT (power), 3 VCC (power), 4 GND (power), 5 BAT ON (out), 6 ~{LL} (out), 7 OSC IN (in), 8 OSC SEL (in), 9 PFI (in), 10 ~{PFO} (out), 11 WDI (in), 12 NC, 13 LLIN (in), 14 ~{WDO} (out), 15 ~{RST} (out), 16 RST (out)

## ADM696AQ
designator U?
Microprocessor Supervisory Circuit; Note: Pin 12 is not connected; Published: 8-Jun-2000; LatestRevisionDate: 04-Mar-2005; LatestRevisionNote: Stylized 3D Model Added.; DatasheetVersion: REV.0 1998; PackageVersion: 1996; PackageReference: Q-16; Publisher: Altium Limited; PackageDescription: DIP; 16 Leads; Row Spacing 7.62 mm; Pitch 2.54 mm; ComponentLink1Description: Manufacturer Link; ComponentLink1URL: http://www.analog.com/en/prod/0,,766_822_ADM696%2C00.html; ComponentLink2Description: Datasheet; ComponentLink2URL: http://www.analog.com/UploadedFiles/Data_Sheets/15387618adm696_7.pdf
footprint Q-16 (DIP; 16 Leads; Row Spacing 7.62 mm; Pitch 2.54 mm)
3D model N-16A (DIP; 16 Leads; Row Spacing 7.62 mm; Pitch 2.54 mm)
pins: 1 BAT (in), 2 VOUT (power), 3 VCC (power), 4 GND (power), 5 BAT ON (out), 6 ~{LL} (out), 7 OSC IN (in), 8 OSC SEL (in), 9 PFI (in), 10 ~{PFO} (out), 11 WDI (in), 12 NC, 13 LLIN (in), 14 ~{WDO} (out), 15 ~{RST} (out), 16 RST (out)

## ADM696AR
designator U?
Microprocessor Supervisory Circuit; Note: Pin 12 is not connected; Published: 8-Jun-2000; LatestRevisionDate: 13-Apr-2006; LatestRevisionNote: IPC-7351 Footprint Added.; DatasheetVersion: REV.0 1998; PackageVersion: revA 1996; PackageReference: R-16; Publisher: Altium Limited; PackageDescription: 16-Pin Small Outline Integrated Circuit 1.27 mm Pitch; Code_JEDEC: MS-013-AA; Code_IPC: SOIC127P1030-16; ComponentLink1Description: Manufacturer Link; ComponentLink1URL: http://www.analog.com/en/prod/0,,766_822_ADM696%2C00.html; ComponentLink2Description: Datasheet; ComponentLink2URL: http://www.analog.com/UploadedFiles/Data_Sheets/15387618adm696_7.pdf
footprint R-16_N (SOIC, 16-Leads, Body 10.3x7.5mm, Pitch 1.27mm, IPC Medium Density)
footprint R-16_L (SOIC, 16-Leads, Body 10.3x7.5mm, Pitch 1.27mm, IPC High Density)
footprint R-16_M (SOIC, 16-Leads, Body 10.3x7.5mm, Pitch 1.27mm, IPC Low Density)
3D model R-16 (16-Pin Small Outline Integrated Circuit 1.27 mm Pitch)
pins: 1 BAT (in), 2 VOUT (power), 3 VCC (power), 4 GND (power), 5 BAT ON (out), 6 ~{LL} (out), 7 OSC IN (in), 8 OSC SEL (in), 9 PFI (in), 10 ~{PFO} (out), 11 WDI (in), 12 NC, 13 LLIN (in), 14 ~{WDO} (out), 15 ~{RST} (out), 16 RST (out)

## ADM696SQ
designator U?
Microprocessor Supervisory Circuit; Note: Pin 12 is not connected; Published: 8-Jun-2000; LatestRevisionDate: 04-Mar-2005; LatestRevisionNote: Stylized 3D Model Added.; DatasheetVersion: REV.0 1998; PackageVersion: 1996; PackageReference: Q-16; Publisher: Altium Limited; PackageDescription: DIP; 16 Leads; Row Spacing 7.62 mm; Pitch 2.54 mm; ComponentLink1Description: Manufacturer Link; ComponentLink1URL: http://www.analog.com/en/prod/0,,766_822_ADM696%2C00.html; ComponentLink2Description: Datasheet; ComponentLink2URL: http://www.analog.com/UploadedFiles/Data_Sheets/15387618adm696_7.pdf
footprint Q-16 (DIP; 16 Leads; Row Spacing 7.62 mm; Pitch 2.54 mm)
3D model N-16A (DIP; 16 Leads; Row Spacing 7.62 mm; Pitch 2.54 mm)
pins: 1 BAT (in), 2 VOUT (power), 3 VCC (power), 4 GND (power), 5 BAT ON (out), 6 ~{LL} (out), 7 OSC IN (in), 8 OSC SEL (in), 9 PFI (in), 10 ~{PFO} (out), 11 WDI (in), 12 NC, 13 LLIN (in), 14 ~{WDO} (out), 15 ~{RST} (out), 16 RST (out)

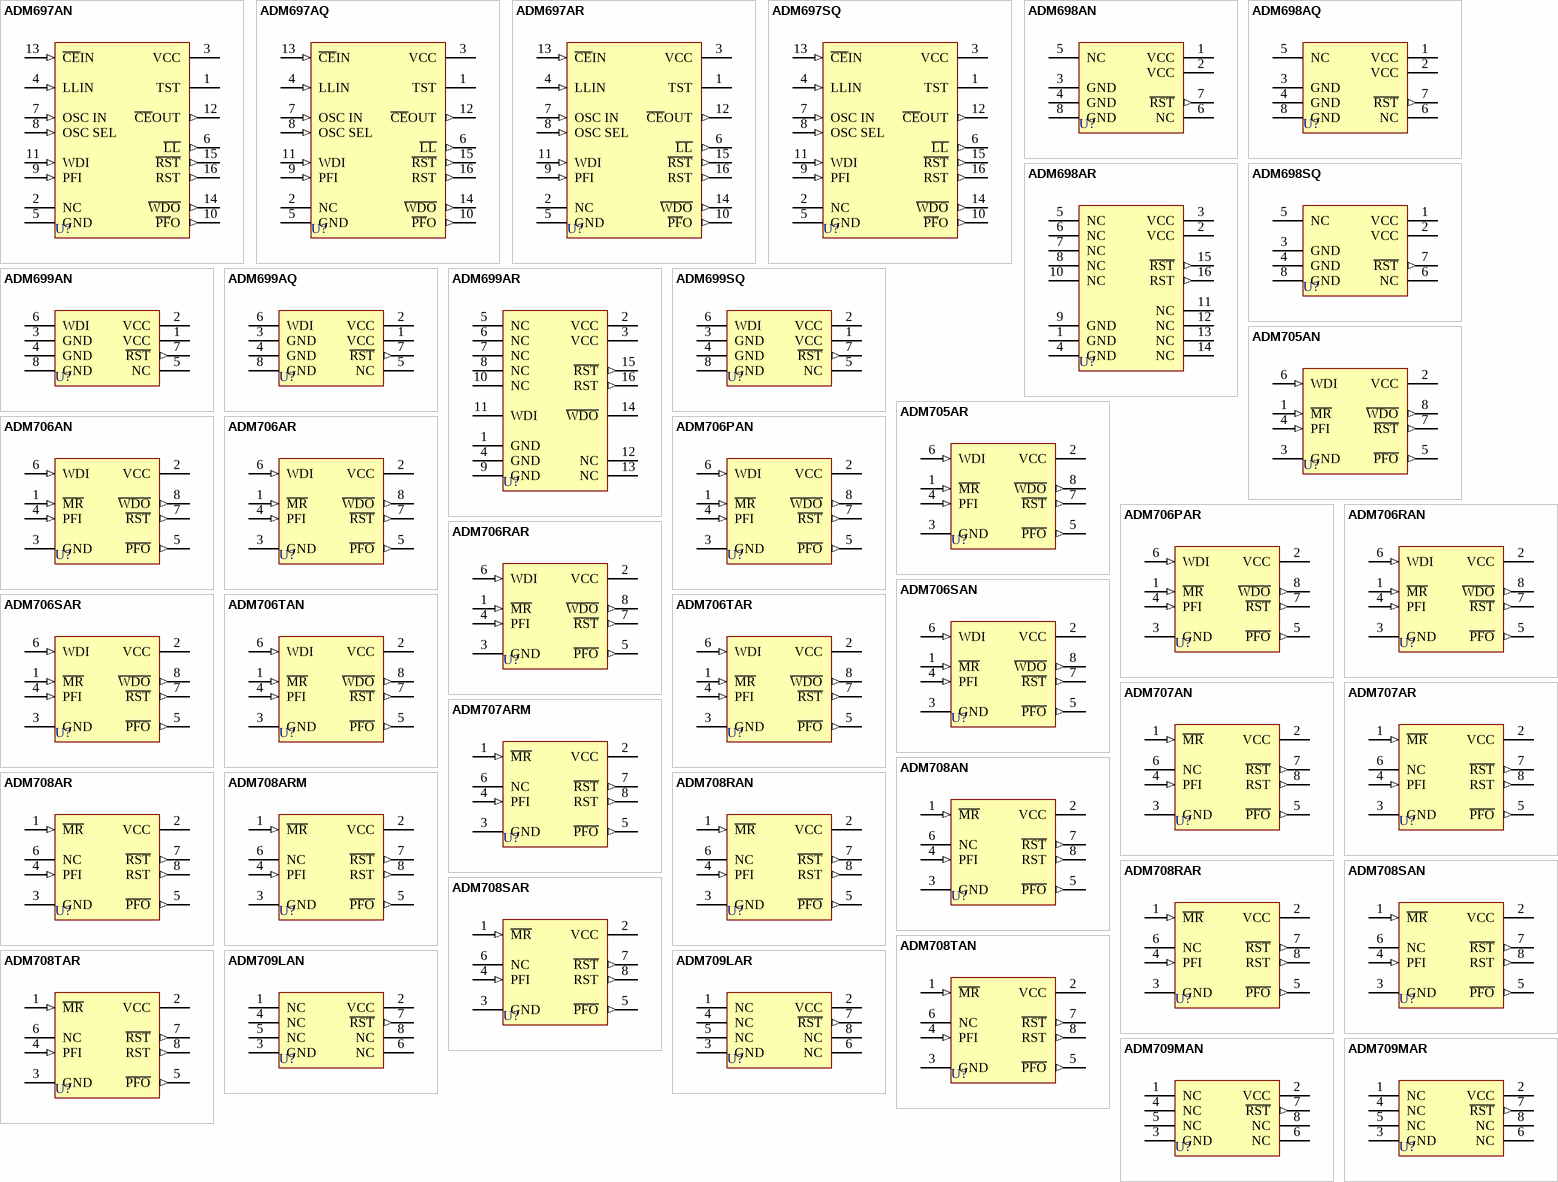
[diagram p1: symbols ADM697AN to ADM709MAR]

## ADM697AN
designator U?
Microprocessor Supervisory Circuit; Note: Pin 1 is a special test pin - connect to GND; Pin 2 is not connected; Published: 8-Jun-2000; LatestRevisionDate: 04-Mar-2005; LatestRevisionNote: Stylized 3D Model Added.; DatasheetVersion: REV.0 1998; PackageReference: N-16_A; Publisher: Altium Limited; PackageDescription: DIP; 16 Leads; Row Spacing 7.62 mm; Pitch 2.54 mm; ComponentLink1Description: Manufacturer Link; ComponentLink1URL: http://www.analog.com/en/prod/0,,766_822_ADM696%2C00.html; ComponentLink2Description: Datasheet; ComponentLink2URL: http://www.analog.com/UploadedFiles/Data_Sheets/15387618adm696_7.pdf
footprint N-16_A (DIP; 16 Leads; Row Spacing 7.62 mm; Pitch 2.54 mm)
3D model N-16A (DIP; 16 Leads; Row Spacing 7.62 mm; Pitch 2.54 mm)
pins: 1 TST, 2 NC, 3 VCC (power), 4 LLIN (in), 5 GND (power), 6 ~{LL} (out), 7 OSC IN (in), 8 OSC SEL (in), 9 PFI (in), 10 ~{PF}O (out), 11 WDI (in), 12 ~{CE}OUT (out), 13 ~{CE}IN (in), 14 ~{WDO} (out), 15 ~{RST} (out), 16 RST (out)

## ADM697AQ
designator U?
Microprocessor Supervisory Circuit; Note: Pin 1 is a special test pin - connect to GND; Pin 2 is not connected; Published: 8-Jun-2000; LatestRevisionDate: 04-Mar-2005; LatestRevisionNote: Stylized 3D Model Added.; DatasheetVersion: REV.0 1998; PackageVersion: 1996; PackageReference: Q-16; Publisher: Altium Limited; PackageDescription: DIP; 16 Leads; Row Spacing 7.62 mm; Pitch 2.54 mm; ComponentLink1Description: Manufacturer Link; ComponentLink1URL: http://www.analog.com/en/prod/0,,766_822_ADM696%2C00.html; ComponentLink2Description: Datasheet; ComponentLink2URL: http://www.analog.com/UploadedFiles/Data_Sheets/15387618adm696_7.pdf
footprint Q-16 (DIP; 16 Leads; Row Spacing 7.62 mm; Pitch 2.54 mm)
3D model N-16A (DIP; 16 Leads; Row Spacing 7.62 mm; Pitch 2.54 mm)
pins: 1 TST, 2 NC, 3 VCC (power), 4 LLIN (in), 5 GND (power), 6 ~{LL} (out), 7 OSC IN (in), 8 OSC SEL (in), 9 PFI (in), 10 ~{PF}O (out), 11 WDI (in), 12 ~{CE}OUT (out), 13 ~{CE}IN (in), 14 ~{WDO} (out), 15 ~{RST} (out), 16 RST (out)

## ADM697AR
designator U?
Microprocessor Supervisory Circuit; Note: Pin 1 is a special test pin - connect to GND; Pin 2 is not connected; Published: 8-Jun-2000; LatestRevisionDate: 13-Apr-2006; LatestRevisionNote: IPC-7351 Footprint Added.; DatasheetVersion: REV.0 1998; PackageVersion: revA 1996; PackageReference: R-16; Publisher: Altium Limited; PackageDescription: 16-Pin Small Outline Integrated Circuit 1.27 mm Pitch; Code_JEDEC: MS-013-AA; Code_IPC: SOIC127P1030-16; ComponentLink1Description: Manufacturer Link; ComponentLink1URL: http://www.analog.com/en/prod/0,,766_822_ADM696%2C00.html; ComponentLink2Description: Datasheet; ComponentLink2URL: http://www.analog.com/UploadedFiles/Data_Sheets/15387618adm696_7.pdf
footprint R-16_N (SOIC, 16-Leads, Body 10.3x7.5mm, Pitch 1.27mm, IPC Medium Density)
footprint R-16_L (SOIC, 16-Leads, Body 10.3x7.5mm, Pitch 1.27mm, IPC High Density)
footprint R-16_M (SOIC, 16-Leads, Body 10.3x7.5mm, Pitch 1.27mm, IPC Low Density)
3D model R-16 (16-Pin Small Outline Integrated Circuit 1.27 mm Pitch)
pins: 1 TST, 2 NC, 3 VCC (power), 4 LLIN (in), 5 GND (power), 6 ~{LL} (out), 7 OSC IN (in), 8 OSC SEL (in), 9 PFI (in), 10 ~{PF}O (out), 11 WDI (in), 12 ~{CE}OUT (out), 13 ~{CE}IN (in), 14 ~{WDO} (out), 15 ~{RST} (out), 16 RST (out)

## ADM697SQ
designator U?
Microprocessor Supervisory Circuit; Note: Pin 1 is a special test pin - connect to GND; Pin 2 is not connected; Published: 8-Jun-2000; LatestRevisionDate: 04-Mar-2005; LatestRevisionNote: Stylized 3D Model Added.; DatasheetVersion: REV.0 1998; PackageVersion: 1996; PackageReference: Q-16; Publisher: Altium Limited; PackageDescription: DIP; 16 Leads; Row Spacing 7.62 mm; Pitch 2.54 mm; ComponentLink1Description: Manufacturer Link; ComponentLink1URL: http://www.analog.com/en/prod/0,,766_822_ADM696%2C00.html; ComponentLink2Description: Datasheet; ComponentLink2URL: http://www.analog.com/UploadedFiles/Data_Sheets/15387618adm696_7.pdf
footprint Q-16 (DIP; 16 Leads; Row Spacing 7.62 mm; Pitch 2.54 mm)
3D model N-16A (DIP; 16 Leads; Row Spacing 7.62 mm; Pitch 2.54 mm)
pins: 1 TST, 2 NC, 3 VCC (power), 4 LLIN (in), 5 GND (power), 6 ~{LL} (out), 7 OSC IN (in), 8 OSC SEL (in), 9 PFI (in), 10 ~{PF}O (out), 11 WDI (in), 12 ~{CE}OUT (out), 13 ~{CE}IN (in), 14 ~{WDO} (out), 15 ~{RST} (out), 16 RST (out)

## ADM698AN
designator U?
Microprocessor Supervisory Circuit; Note: Pins 5 and 6 are not connected; Published: 8-Jun-2000; LatestRevisionDate: 04-Mar-2005; LatestRevisionNote: Stylized 3D Model Added.; DatasheetVersion: REV.0 1998; PackageReference: N-8_A; Publisher: Altium Limited; PackageDescription: DIP; 8 Leads; Row Spacing 7.62 mm; Pitch 2.54 mm; Code_JEDEC: MO-001-AN; ComponentLink1Description: Manufacturer Link; ComponentLink1URL: http://www.analog.com/en/prod/0,,766_822_ADM698%2C00.html; ComponentLink2Description: Datasheet; ComponentLink2URL: http://www.analog.com/UploadedFiles/Data_Sheets/42852722adm698_9.pdf
footprint N-8_A (DIP; 8 Leads; Row Spacing 7.62 mm; Pitch 2.54 mm)
3D model N-8A (DIP; 8 Leads; Row Spacing 7.62 mm; Pitch 2.54 mm)
pins: 1 VCC (power), 2 VCC (power), 3 GND (power), 4 GND (power), 5 NC (power), 6 NC (power), 7 ~{RST} (out), 8 GND (power)

## ADM698AQ
designator U?
Microprocessor Supervisory Circuit; Note: Pins 5 and 6 are not connected; Published: 8-Jun-2000; LatestRevisionDate: 04-Mar-2005; LatestRevisionNote: Stylized 3D Model Added.; DatasheetVersion: REV.0 1998; PackageReference: Q-8_D; Publisher: Altium Limited; PackageDescription: DIP; 8 Leads; Row Spacing 7.62 mm; Pitch 2.54 mm; Code_JEDEC: MO-001-AN; ComponentLink1Description: Manufacturer Link; ComponentLink1URL: http://www.analog.com/en/prod/0,,766_822_ADM698%2C00.html; ComponentLink2Description: Datasheet; ComponentLink2URL: http://www.analog.com/UploadedFiles/Data_Sheets/42852722adm698_9.pdf
footprint Q-8_D (DIP; 8 Leads; Row Spacing 7.62 mm; Pitch 2.54 mm)
3D model N-8A (DIP; 8 Leads; Row Spacing 7.62 mm; Pitch 2.54 mm)
pins: 1 VCC (power), 2 VCC (power), 3 GND (power), 4 GND (power), 5 NC (power), 6 NC (power), 7 ~{RST} (out), 8 GND (power)

## ADM698AR
designator U?
Microprocessor Supervisory Circuit; Note: Pins 5, 6, 7, 8, 10, 11, 12, 13 and 14 are not connected; Published: 8-Jun-2000; LatestRevisionDate: 13-Apr-2006; LatestRevisionNote: IPC-7351 Footprint Added.; DatasheetVersion: REV.0 1998; PackageVersion: revA 1996; PackageReference: R-16; Publisher: Altium Limited; PackageDescription: 16-Pin Small Outline Integrated Circuit 1.27 mm Pitch; Code_JEDEC: MS-013-AA; Code_IPC: SOIC127P1030-16; ComponentLink1Description: Manufacturer Link; ComponentLink1URL: http://www.analog.com/en/prod/0,,766_822_ADM698%2C00.html; ComponentLink2Description: Datasheet; ComponentLink2URL: http://www.analog.com/UploadedFiles/Data_Sheets/42852722adm698_9.pdf
footprint R-16_N (SOIC, 16-Leads, Body 10.3x7.5mm, Pitch 1.27mm, IPC Medium Density)
footprint R-16_L (SOIC, 16-Leads, Body 10.3x7.5mm, Pitch 1.27mm, IPC High Density)
footprint R-16_M (SOIC, 16-Leads, Body 10.3x7.5mm, Pitch 1.27mm, IPC Low Density)
3D model R-16 (16-Pin Small Outline Integrated Circuit 1.27 mm Pitch)
pins: 1 GND (power), 2 VCC (power), 3 VCC (power), 4 GND (power), 5 NC, 6 NC, 7 NC, 8 NC, 9 GND (power), 10 NC, 11 NC, 12 NC, 13 NC, 14 NC, 15 ~{RST} (out), 16 RST (out)

## ADM698SQ
designator U?
Microprocessor Supervisory Circuit; Note: Pins 5 and 6 are not connected; Published: 8-Jun-2000; LatestRevisionDate: 04-Mar-2005; LatestRevisionNote: Stylized 3D Model Added.; DatasheetVersion: REV.0 1998; PackageReference: Q-8_D; Publisher: Altium Limited; PackageDescription: DIP; 8 Leads; Row Spacing 7.62 mm; Pitch 2.54 mm; Code_JEDEC: MO-001-AN; ComponentLink1Description: Manufacturer Link; ComponentLink1URL: http://www.analog.com/en/prod/0,,766_822_ADM698%2C00.html; ComponentLink2Description: Datasheet; ComponentLink2URL: http://www.analog.com/UploadedFiles/Data_Sheets/42852722adm698_9.pdf
footprint Q-8_D (DIP; 8 Leads; Row Spacing 7.62 mm; Pitch 2.54 mm)
3D model N-8A (DIP; 8 Leads; Row Spacing 7.62 mm; Pitch 2.54 mm)
pins: 1 VCC (power), 2 VCC (power), 3 GND (power), 4 GND (power), 5 NC (power), 6 NC (power), 7 ~{RST} (out), 8 GND (power)

## ADM699AN
designator U?
Microprocessor Supervisory Circuit; Note: Pins 5 and 6 are not connected; Published: 8-Jun-2000; LatestRevisionDate: 04-Mar-2005; LatestRevisionNote: Stylized 3D Model Added.; DatasheetVersion: REV.0 1998; PackageReference: N-8_A; Publisher: Altium Limited; PackageDescription: DIP; 8 Leads; Row Spacing 7.62 mm; Pitch 2.54 mm; Code_JEDEC: MO-001-AN; ComponentLink1Description: Manufacturer Link; ComponentLink1URL: http://www.analog.com/en/prod/0,,766_822_ADM698%2C00.html; ComponentLink2Description: Datasheet; ComponentLink2URL: http://www.analog.com/UploadedFiles/Data_Sheets/42852722adm698_9.pdf
footprint N-8_A (DIP; 8 Leads; Row Spacing 7.62 mm; Pitch 2.54 mm)
3D model N-8A (DIP; 8 Leads; Row Spacing 7.62 mm; Pitch 2.54 mm)
pins: 1 VCC (power), 2 VCC (power), 3 GND (power), 4 GND (power), 5 NC (power), 6 WDI, 7 ~{RST} (out), 8 GND (power)

## ADM699AQ
designator U?
Microprocessor Supervisory Circuit; Note: Pins 5 and 6 are not connected; Published: 8-Jun-2000; LatestRevisionDate: 04-Mar-2005; LatestRevisionNote: Stylized 3D Model Added.; DatasheetVersion: REV.0 1998; PackageReference: Q-8_D; Publisher: Altium Limited; PackageDescription: DIP; 8 Leads; Row Spacing 7.62 mm; Pitch 2.54 mm; Code_JEDEC: MO-001-AN; ComponentLink1Description: Manufacturer Link; ComponentLink1URL: http://www.analog.com/en/prod/0,,766_822_ADM698%2C00.html; ComponentLink2Description: Datasheet; ComponentLink2URL: http://www.analog.com/UploadedFiles/Data_Sheets/42852722adm698_9.pdf
footprint Q-8_D (DIP; 8 Leads; Row Spacing 7.62 mm; Pitch 2.54 mm)
3D model N-8A (DIP; 8 Leads; Row Spacing 7.62 mm; Pitch 2.54 mm)
pins: 1 VCC (power), 2 VCC (power), 3 GND (power), 4 GND (power), 5 NC (power), 6 WDI, 7 ~{RST} (out), 8 GND (power)

## ADM699AR
designator U?
Microprocessor Supervisory Circuit; Note: Pins 5, 6, 7, 8, 10, 12 and 13 are not connected; Published: 8-Jun-2000; LatestRevisionDate: 13-Apr-2006; LatestRevisionNote: IPC-7351 Footprint Added.; DatasheetVersion: REV.0 1998; PackageVersion: revA 1996; PackageReference: R-16; Publisher: Altium Limited; PackageDescription: 16-Pin Small Outline Integrated Circuit 1.27 mm Pitch; Code_JEDEC: MS-013-AA; Code_IPC: SOIC127P1030-16; ComponentLink1Description: Manufacturer Link; ComponentLink1URL: http://www.analog.com/en/prod/0,,766_822_ADM698%2C00.html; ComponentLink2Description: Datasheet; ComponentLink2URL: http://www.analog.com/UploadedFiles/Data_Sheets/42852722adm698_9.pdf
footprint R-16_N (SOIC, 16-Leads, Body 10.3x7.5mm, Pitch 1.27mm, IPC Medium Density)
footprint R-16_L (SOIC, 16-Leads, Body 10.3x7.5mm, Pitch 1.27mm, IPC High Density)
footprint R-16_M (SOIC, 16-Leads, Body 10.3x7.5mm, Pitch 1.27mm, IPC Low Density)
3D model R-16 (16-Pin Small Outline Integrated Circuit 1.27 mm Pitch)
pins: 1 GND (power), 2 VCC (power), 3 VCC (power), 4 GND (power), 5 NC, 6 NC, 7 NC, 8 NC, 9 GND (power), 10 NC, 11 WDI, 12 NC, 13 NC, 14 ~{WDO}, 15 ~{RST} (out), 16 RST (out)

## ADM699SQ
designator U?
Microprocessor Supervisory Circuit; Note: Pins 5 and 6 are not connected; Published: 8-Jun-2000; LatestRevisionDate: 04-Mar-2005; LatestRevisionNote: Stylized 3D Model Added.; DatasheetVersion: REV.0 1998; PackageReference: Q-8_D; Publisher: Altium Limited; PackageDescription: DIP; 8 Leads; Row Spacing 7.62 mm; Pitch 2.54 mm; Code_JEDEC: MO-001-AN; ComponentLink1Description: Manufacturer Link; ComponentLink1URL: http://www.analog.com/en/prod/0,,766_822_ADM698%2C00.html; ComponentLink2Description: Datasheet; ComponentLink2URL: http://www.analog.com/UploadedFiles/Data_Sheets/42852722adm698_9.pdf
footprint Q-8_D (DIP; 8 Leads; Row Spacing 7.62 mm; Pitch 2.54 mm)
3D model N-8A (DIP; 8 Leads; Row Spacing 7.62 mm; Pitch 2.54 mm)
pins: 1 VCC (power), 2 VCC (power), 3 GND (power), 4 GND (power), 5 NC (power), 6 WDI, 7 ~{RST} (out), 8 GND (power)